# EAGLE library part MPU6050 (library MPU6050)
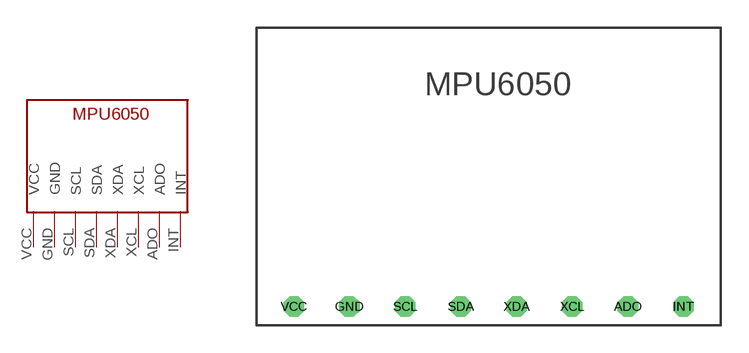
[diagram p0: symbol with the pads of MPU6050; footprint MPU6050]

Designator prefix -

## MPU6050  [MPU6050]
ADO  ADO
GND  GND
INT  INT
SCL  SCL
SDA  SDA
VCC  VCC
XCL  XCL
XDA  XDA

## Footprint MPU6050 (pad centres in mm)
drill 0.6 octagon: ADO 20,1; GND 5,1; INT 23,1; SCL 8,1; SDA 11,1; VCC 2,1; XCL 17,1; XDA 14,1